# Altium footprint library transformator.PcbLib: 34 footprints (part 1 of 3)
Each footprint in its own frame and in the unit in brackets; x right, y up, seen from the top. Pads: shape width x height; smd on the part's side, far side on the other; paste and mask are expansions set on the pad; w line width, h text height; cw(c..) or ccw(c..) is an arc to the next point about the centre after c.
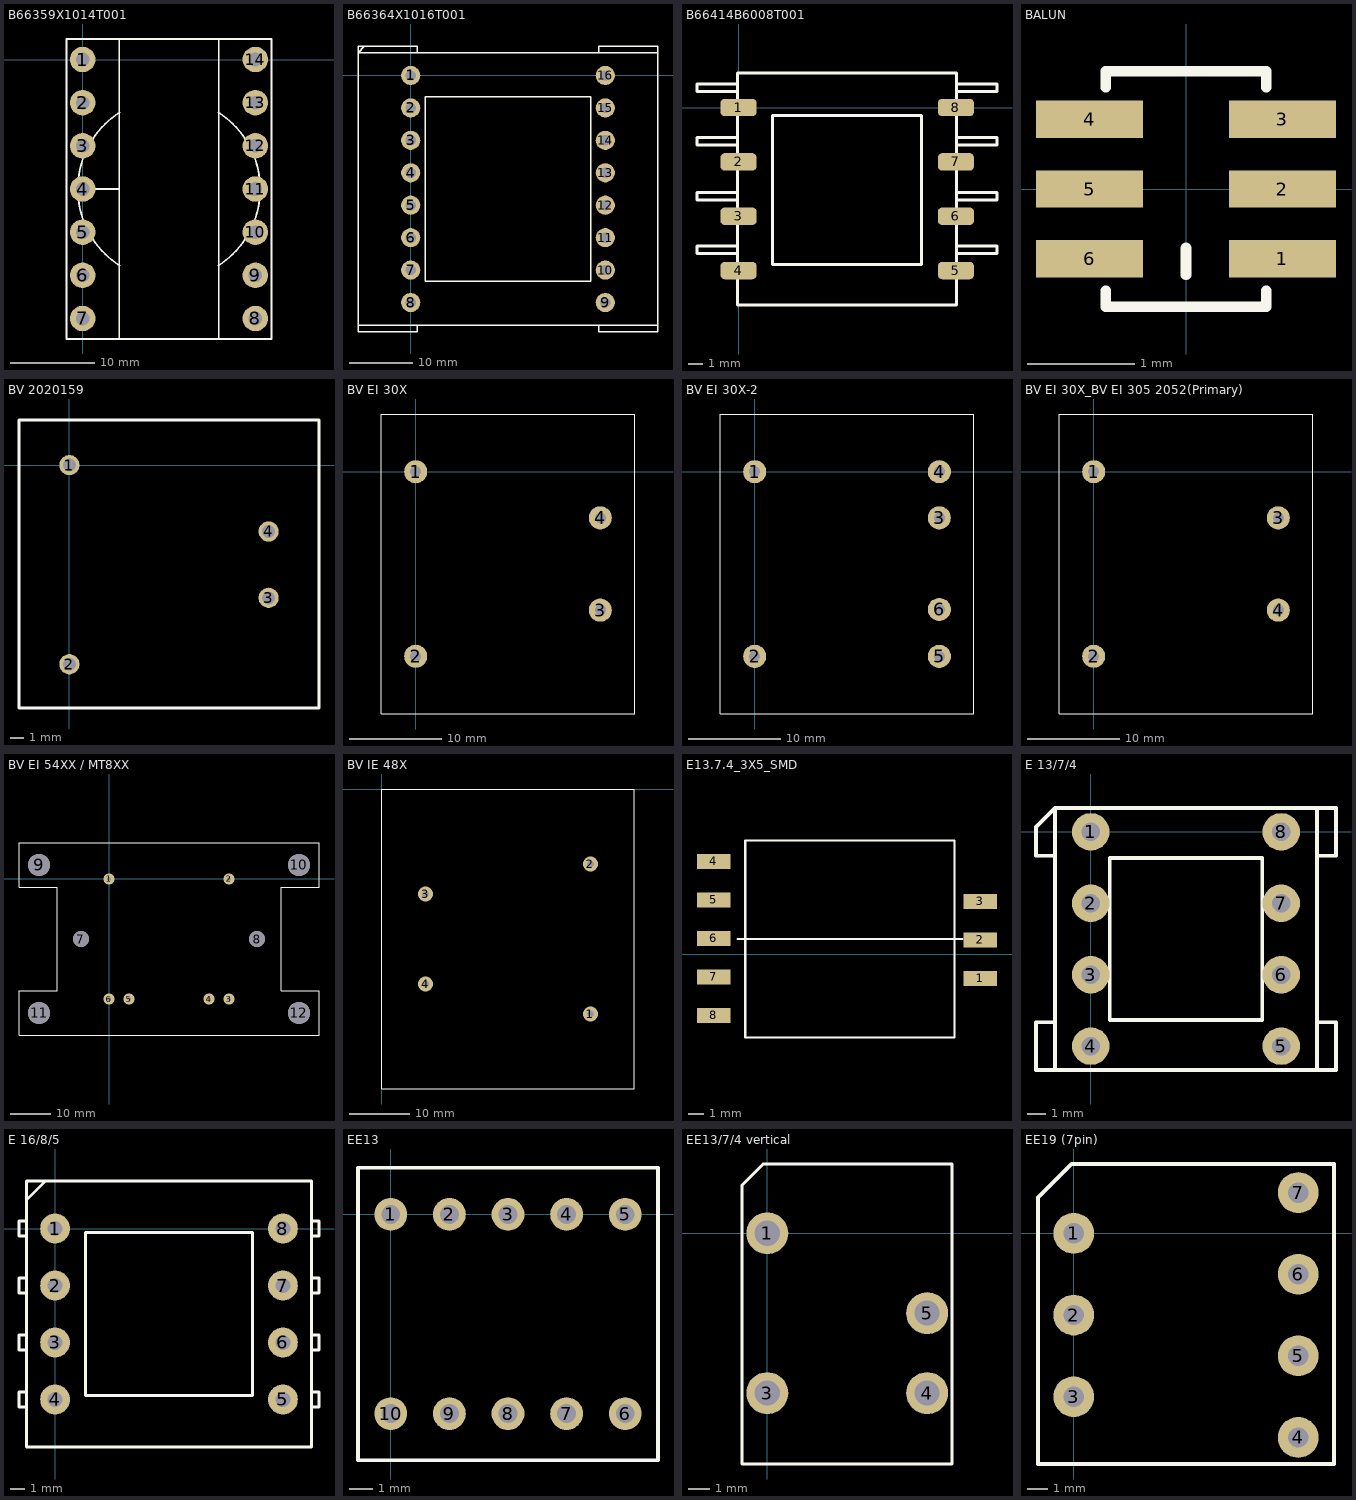
[diagram p0: the footprints below, top view; thin cyan lines are the x and y axes]

## B66359X1014T001 [mm]
pads (14):
  round 3 hole 1.6: 1(0,0) 2(0,-5.08) 3(0,-10.16) 4(0,-15.24) 5(0,-20.32) 6(0,-25.4) 7(0,-30.48) 8(20.32,-30.48) 9(20.32,-25.4) 10(20.32,-20.32) 11(20.32,-15.24) 12(20.32,-10.16) 13(20.32,-5.08) 14(20.32,0)
Top Overlay:
  lines w0.2: -0.508,-15.24 4.318,-15.24 ; 4.318,-32.893 4.318,2.413 ; 4.331,-24.251 cw(c10.16,-15.24) 4.331,-6.229 ; 15.989,-24.251 ccw(c10.16,-15.24) 15.989,-6.229 ; 16.002,-32.893 16.002,2.413 ; -1.905,-32.893 22.225,-32.893 22.225,2.413 -1.905,2.413 -1.905,-32.893

## B66364X1016T001 [mm]
pads (16):
  round 3 hole 1.6: 1(0,0) 2(0,-5.08) 3(0,-10.16) 4(0,-15.24) 5(0,-20.32) 6(0,-25.4) 7(0,-30.48) 8(0,-35.56) 9(30.48,-35.56) 10(30.48,-30.48) 11(30.48,-25.4) 12(30.48,-20.32) 13(30.48,-15.24) 14(30.48,-10.16) 15(30.48,-5.08) 16(30.48,0)
Top Overlay:
  lines w0.2: -7.239,4.572 -8.255,3.556 ; 1.016,-39.116 1.016,-40.132 -8.255,-40.132 -8.255,-39.116 ; 1.016,3.556 1.016,4.572 -8.255,4.572 -8.255,3.556 ; 29.464,-39.116 29.464,-40.132 38.735,-40.132 38.735,-39.116 ; 29.464,3.556 29.464,4.572 38.735,4.572 38.735,3.556 ; -8.255,-39.116 -8.255,3.556 ; -8.255,-39.116 38.735,-39.116 ; -8.255,3.556 38.735,3.556 ; 38.735,-39.116 38.735,3.556 ; 2.286,-32.258 2.286,-3.302 28.194,-3.302 28.194,-32.258 2.286,-32.258

## B66414B6008T001 [mm]
pads (8):
  rrect50% 2.5x1.2 smd: 1(0,0) 2(0,-3.75) 3(0,-7.5) 4(0,-11.25) 5(15,-11.25) 6(15,-7.5) 7(15,-3.75) 8(15,0)
Top Overlay:
  lines w0.2: -0.072,-10.066 -2.866,-10.066 -2.866,-9.558 -0.072,-9.558 ; -0.072,-6.383 -2.866,-6.383 -2.866,-5.875 -0.072,-5.875 ; -0.072,-2.573 -2.866,-2.573 -2.866,-2.065 -0.072,-2.065 ; -0.072,1.11 -2.866,1.11 -2.866,1.618 -0.072,1.618 ; 15.041,-10.066 17.835,-10.066 17.835,-9.558 15.041,-9.558 ; 15.041,-6.383 17.835,-6.383 17.835,-5.875 15.041,-5.875 ; 15.041,-2.573 17.835,-2.573 17.835,-2.065 15.041,-2.065 ; 15.041,1.11 17.835,1.11 17.835,1.618 15.041,1.618 ; -0.072,-13.622 -0.072,2.38 15.041,2.38 15.041,-13.622 -0.072,-13.622 ; 2.341,-10.828 2.341,-0.541 12.628,-0.541 12.628,-10.828 2.341,-10.828

## BALUN [mm]
pads (6):
  rect 1x0.35 smd: 1(0.9,-0.65) 2(0.9,0) 3(0.9,0.65) 4(-0.9,0.65) 5(-0.9,0) 6(-0.9,-0.65)
Top Overlay:
  lines w0.1: -0.75,-0.95 -0.75,-1.1 0.75,-1.1 0.75,-0.95 ; -0.75,0.95 -0.75,1.1 0.75,1.1 0.75,0.95 ; 0,-0.8 0,-0.55

## BV 2020159 [mil]
pads (4):
  round 60 hole 38: 1(0,0) 2(0,-590.55) 3(590.55,-393.7) 4(590.55,-196.85)
Top Overlay:
  lines w9.84: -149.61,-720.47 740.16,-720.47 740.16,133.86 -149.61,133.86 -149.61,-720.47

## BV EI 30X [mm]
pads (4):
  round 2.5 hole 1.2: 1(0,0) 2(0,-20) 3(20,-15) 4(20,-5)
Top Overlay:
  lines w0.1: -3.75,-26.25 -3.75,6.25 23.75,6.25 23.75,-26.25 -3.75,-26.25

## BV EI 30X-2 [mm]
pads (6):
  round 2.5 hole 1.2: 1(0,0) 2(0,-20.002) 3(20,-5) 4(20.002,0) 5(20.002,-20.002) 6(20.002,-14.922)
Top Overlay:
  lines w0.025: -3.75,-26.25 -3.75,6.25 23.75,6.25 23.75,-26.25 -3.75,-26.25

## BV EI 30X_BV EI 305 2052(Primary) [mm]
pads (4):
  round 2.5 hole 1.2: 1(0,0) 2(0,-20) 3(20,-5) 4(20,-15)
Top Overlay:
  lines w0.1: -3.75,-26.25 23.75,-26.25 23.75,6.25 -3.75,6.25 -3.75,-26.25

## BV EI 54XX / MT8XX [mm]
pads (12):
  round 2.8 hole 1.1: 1(0,0) 2(30,0) 3(30,-30) 4(25,-30) 5(5,-30) 6(0,-30)
  round 4 hole 4: 7(-7,-15) 8(37,-15)
  round 5.5 hole 5.5 unplated: 9(-17.5,3.5) 10(47.5,3.5) 11(-17.5,-33.5) 12(47.5,-33.5)
Top Overlay:
  lines w0.3: -22.5,-39 52.5,-39 52.5,-28 43,-28 43,-2 52.5,-2 52.5,9 -22.5,9 -22.5,-2 -13,-2 -13,-28 -22.5,-28 -22.5,-39

## BV IE 48X [mm]
pads (4):
  round 2.5 hole 1.2: 1(34.8,-37.5) 2(34.8,-12.5) 3(7.3,-17.5) 4(7.3,-32.5)
Top Overlay:
  lines w0.025: 0,-50 42.1,-50 42.1,0 0,0 0,-50

## E13.7.4_3X5_SMD [mm]
pads (8):
  rect 2.2x1 smd: 1(-4.9,-1.6) 2(-4.9,0.94) 3(-4.9,3.48) 4(-22.48,6.12) 5(-22.48,3.58) 6(-22.48,1.04) 7(-22.48,-1.5) 8(-22.48,-4.04)
Top Overlay:
  lines w0.15: -20.9,1 -6.1,1 ; -20.4,-5.5 -20.4,7.5 -6.6,7.5 -6.6,-5.5 -20.4,-5.5

## E 13/7/4 [mm]
pads (8):
  round 2 hole 1: 1(0,0) 2(0,-3.81) 3(0,-7.62) 4(0,-11.43) 5(10.16,-11.43) 6(10.16,-7.62) 7(10.16,-3.81) 8(10.16,0)
Top Overlay:
  lines w0.2: -1.905,-12.7 -1.905,1.27 ; -1.905,-10.16 -2.921,-10.16 -2.921,-12.7 13.081,-12.7 13.081,-10.16 12.065,-10.16 ; -1.905,-1.27 -2.921,-1.27 -2.921,0.254 -1.905,1.27 ; 12.065,-12.7 12.065,1.27 ; 12.065,-1.27 13.081,-1.27 13.081,1.27 -1.905,1.27 ; 1.016,-10.033 9.144,-10.033 9.144,-1.397 1.016,-1.397 1.016,-10.033

## E 16/8/5 [mm]
pads (8):
  round 2 hole 1: 1(0,0) 2(0,-3.81) 3(0,-7.62) 4(0,-11.43) 5(15.24,-11.43) 6(15.24,-7.62) 7(15.24,-3.81) 8(15.24,0)
Top Overlay:
  lines w0.2: -1.905,-11.938 -2.413,-11.938 -2.413,-10.922 -1.905,-10.922 ; -1.905,-8.128 -2.413,-8.128 -2.413,-7.112 -1.905,-7.112 ; -1.905,-4.318 -2.413,-4.318 -2.413,-3.302 -1.905,-3.302 ; -1.905,-0.508 -2.413,-0.508 -2.413,0.508 -1.905,0.508 ; -1.905,1.905 -0.635,3.175 ; 17.145,-11.938 17.653,-11.938 17.653,-10.922 17.145,-10.922 ; 17.145,-8.128 17.653,-8.128 17.653,-7.112 17.145,-7.112 ; 17.145,-4.318 17.653,-4.318 17.653,-3.302 17.145,-3.302 ; 17.145,-0.508 17.653,-0.508 17.653,0.508 17.145,0.508 ; -1.905,-14.605 17.145,-14.605 17.145,3.175 -1.905,3.175 -1.905,-14.605 ; 2.032,-11.176 13.208,-11.176 13.208,-0.254 2.032,-0.254 2.032,-11.176

## EE13 [mm]
pads (10):
  round 1.4 hole 0.8: 1(0,0) 2(2.5,0) 3(5,0) 4(7.5,0) 5(10,0) 6(10,-8.5) 7(7.5,-8.5) 8(5,-8.5) 9(2.5,-8.5) 10(0,-8.5)
Top Overlay:
  lines w0.15: -1.4,-10.5 11.4,-10.5 11.4,2 -1.4,2 -1.4,-10.5

## EE13/7/4 vertical [mm]
pads (4):
  round 2 hole 1.2: 1(0,0) 3(0,-7.62) 4(7.62,-7.62) 5(7.62,-3.81)
Top Overlay:
  lines w0.15: -1.2,-11 8.8,-11 8.8,3.3 -0.2,3.3 -1.2,2.3 -1.2,-11
3D body "e_13_7_4.STEP": height 15.8, standoff -3.5, extent -1.2,-10.9 8.8,3.3

## EE19 (7pin) [mm]
pads (7):
  round 2 hole 1: 1(0,0) 2(0,-4) 3(0,-8) 4(11,-10) 5(11,-6) 6(11,-2) 7(11,2)
Top Overlay:
  lines w0.2: -1.75,-11.3 -1.75,1.75 -0.1,3.4 12.75,3.4 12.75,-11.3 -1.75,-11.3